# Altium footprint library PCB_PassiveCap.PcbLib: 27 footprints (part 1 of 2)
Each footprint in its own frame and in the unit in brackets; x right, y up, seen from the top. Pads: shape width x height; smd on the part's side, far side on the other; paste and mask are expansions set on the pad; w line width, h text height; cw(c..) or ccw(c..) is an arc to the next point about the centre after c.
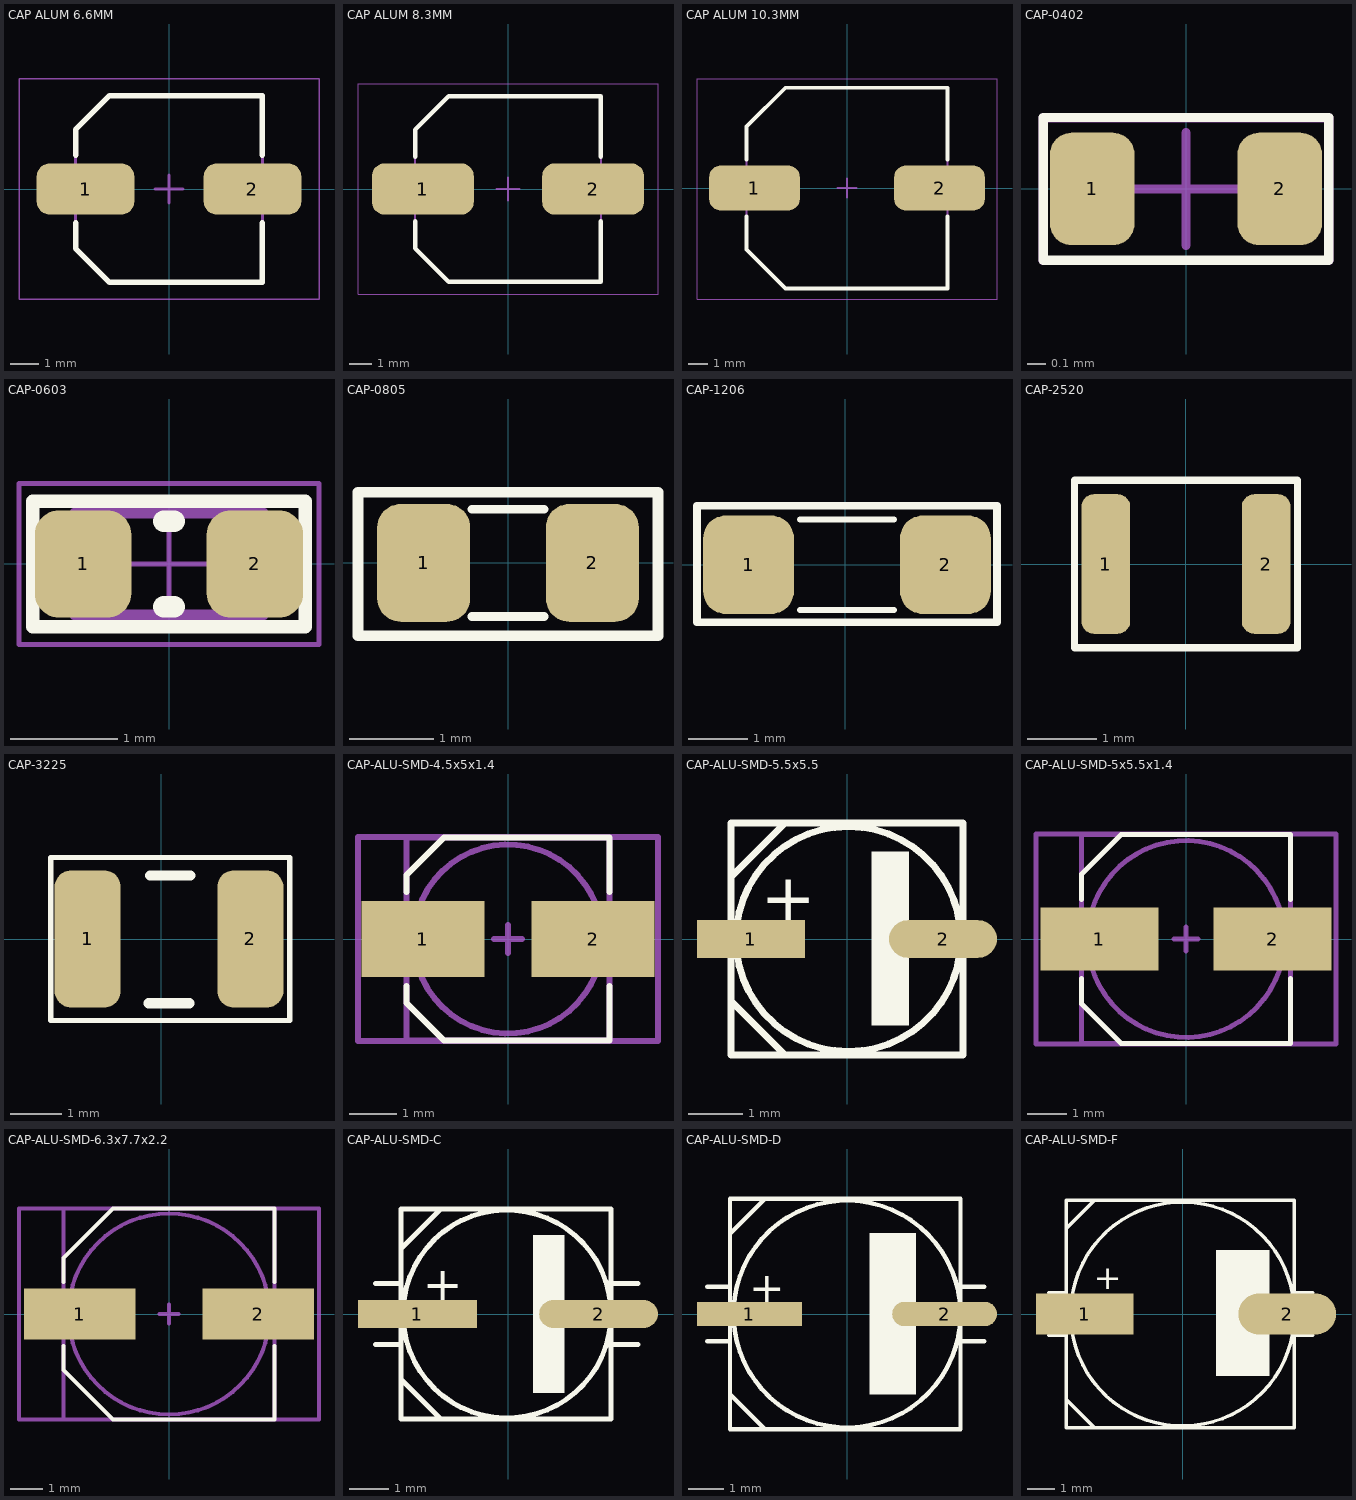
[diagram p0: the footprints below, top view; thin cyan lines are the x and y axes]

## CAP ALUM 6.6MM [mm] "Aluminum Electrolytic Capacitor, Body 6.60x6.60x7.70mm, IPC Low Density"
height 7.7
pads (2):
  rrect50% 3.45x1.8 smd: 1(-2.95,0) 2(2.95,0)
Top Overlay:
  lines w0.2: -3.3,-1.2 -3.3,-2.1 -2.1,-3.3 3.3,-3.3 3.3,-1.2 ; -3.3,1.2 -3.3,2.1 -2.1,3.3 3.3,3.3 3.3,1.2
Mechanical 13:
  lines w0.1: -3.3,-2.1 -3.3,2.1 -2.1,3.3 3.3,3.3 3.3,-3.3 -2.1,-3.3 -3.3,-2.1
B-Component:
  lines w0.05: -5.3,-3.9 5.3,-3.9 5.3,3.9 -5.3,3.9 -5.3,-3.9
  lines w0.1: -0.5,0 0.5,0 ; 0,-0.5 0,0.5
3D body "CAP ALUM 6_6mm.STEP": height 7.7, standoff 0, extent -3.5,-3.3 3.5,3.3

## CAP ALUM 8.3MM [mm] "Aluminum Electrolytic Capacitor, Body 8.30x8.30x10.50mm, IPC Low Density"
height 10.5
pads (2):
  rrect50% 4.55x2.3 smd: 1(-3.8,0) 2(3.8,0)
Top Overlay:
  lines w0.2: -4.15,-1.45 -4.15,-2.65 -2.65,-4.15 4.15,-4.15 4.15,-1.45 ; -4.15,1.45 -4.15,2.65 -2.65,4.15 4.15,4.15 4.15,1.45
Mechanical 13:
  lines w0.1: -4.15,-2.65 -4.15,2.65 -2.65,4.15 4.15,4.15 4.15,-4.15 -2.65,-4.15 -4.15,-2.65
B-Component:
  lines w0.05: -6.7,-4.7 6.7,-4.7 6.7,4.7 -6.7,4.7 -6.7,-4.7
  lines w0.1: -0.5,0 0.5,0 ; 0,-0.5 0,0.5
3D body "CAP ALUM 8_3mm.STEP": height 10.5, standoff 0, extent -4.95,-4.15 4.95,4.15

## CAP ALUM 10.3MM [mm] "Aluminum Electrolytic Capacitor, Body 10.30x10.30x10.50mm, IPC Low Density"
height 10.5
pads (2):
  rrect50% 4.65x2.3 smd: 1(-4.75,0) 2(4.75,0)
Top Overlay:
  lines w0.2: -5.15,-1.45 -5.15,-3.15 -3.15,-5.15 5.15,-5.15 5.15,-1.45 ; -5.15,1.45 -5.15,3.15 -3.15,5.15 5.15,5.15 5.15,1.45
Mechanical 13:
  lines w0.1: -5.15,-3.15 -3.15,-5.15 5.15,-5.15 5.15,5.15 -3.15,5.15 -5.15,3.15 -5.15,-3.15
B-Component:
  lines w0.05: -7.7,-5.7 -7.7,5.6 7.7,5.6 7.7,-5.7 -7.7,-5.7
  lines w0.1: -0.5,0 0.5,0 ; 0,-0.5 0,0.5
3D body "CAP ALUM 10_3mm.STEP": height 10.5, standoff 0, extent -5.8,-5.15 5.8,5.15

## CAP-0402 [mm]
pads (2):
  rrect50% 0.45x0.6 smd: 1(-0.5,0) 2(0.5,0)
Top Overlay:
  lines w0.05: -0.127,-0.381 0,-0.381 0.127,-0.381 ; 0.127,0.381 0,0.381 ; 0,0.381 -0.762,0.381 -0.762,-0.381 0.762,-0.381 0.762,0.381 0,0.381
B-Component:
  lines w0.05: -0.3,0 0.3,0 ; 0,-0.3 0,0.3 ; -0.762,-0.381 -0.762,0.381 0.762,0.381 0.762,-0.381 -0.762,-0.381
3D body "User Library-0402 SMD Capacitor.step": height 0.2, standoff 0, extent -0.5,-0.3 0.5,0.3

## CAP-0603 [mm]
pads (2):
  rrect50% 0.9x1 smd: 1(-0.8,0) 2(0.8,0)
Top Overlay:
  lines w0.127: -1.27,-0.584 1.27,-0.584 1.27,0.584 -1.27,0.584 -1.27,-0.584
  lines w0.2: -0.05,-0.4 0.05,-0.4 ; -0.05,0.4 0.05,0.4
Mechanical 13:
  lines w0.1: -0.875,-0.475 0.875,-0.475 0.875,0.475 -0.875,0.475 -0.875,-0.475
B-Component:
  lines w0.05: -0.475,0 0.475,0 ; 0,-0.475 0,0.475 ; -1.397,-0.75 1.397,-0.75 1.397,0.75 -1.397,0.75 -1.397,-0.75
3D body "User Library-0603 SMD Capacitor.step": height 0.3, standoff 0, extent -0.8,-0.4 0.8,0.4

## CAP-0805 [mm]
pads (2):
  rrect50% 1.1x1.397 smd: 1(-1,0) 2(1,0)
Top Overlay:
  lines w0.102: -0.432,-0.635 0.432,-0.635 ; -0.432,0.635 0.432,0.635
  lines w0.127: -1.778,-0.864 -1.778,0.838 1.778,0.838 1.778,-0.864 -1.778,-0.864
3D body "0805 SMD Capacitor.step": height 0.8, standoff 0.02, extent -1,-0.625 1,0.625

## CAP-1206 [mil]
pads (2):
  rrect50% 60x65 smd: 1(-64,0) 2(66,0)
Top Overlay:
  lines w4: -30,-30 32,-30 ; -30,30 32,30
  lines w5: -98,-38 -98,39 100,39 100,-38 -98,-38
3D body "1206 SMD Capacitor.step": height 40.05, standoff 0.6, extent -62.98,-31.49 63,31.51

## CAP-2520 [mm] "TOKO INDUCTOR DFE252012 SERIES"
pads (2):
  rrect50% 0.7x2 smd mask+0.051: 1(-1.15,0) 2(1.15,0)
Top Overlay:
  lines w0.102: -1.6,-1.2 -1.5,-1.2 1.6,-1.2 1.6,1.2 -1.5,1.2 -1.6,1.2 -1.6,-1.2
3D body: height 1.21, standoff 0, extent 0.85,-1 1.25,1
3D body: height 1.21, standoff 0, extent -1.25,-1 -0.85,1
3D body: height 1.2, standoff 0, extent -1.15,-0.9 1.15,0.9

## CAP-3225 [mm] "Chip Capacitor, Body 3.2x2.5mm, IPC Medium Density"
height 1.35
pads (2):
  rrect50% 1.3x2.7 smd: 1(-1.445,0) 2(1.755,0)
Top Overlay:
  lines w0.1: -2.17,-1.6 2.53,-1.6 2.53,1.6 -2.17,1.6 -2.17,-1.6
  lines w0.2: -0.245,-1.265 0.555,-1.265 ; -0.22,1.25 0.58,1.25
3D body "SMD Capacitor 3225.step": height 1, standoff 0, extent -1.445,-1.25 1.755,1.25

## CAP-ALU-SMD-4.5x5x1.4 [mm]
height 5.5
pads (2):
  rect 2.6x1.6 smd: 1(-1.8,0) 2(1.8,0)
Top Overlay:
  lines w0.127: -2.15,-1 -2.15,-1.35 -1.35,-2.15 2.15,-2.15 2.15,-1 ; -2.15,1 -2.15,1.35 -1.35,2.15 2.15,2.15 2.15,1
Mechanical 13:
  circle w0.127: c0,0 r2
  lines w0.127: -2.15,-2.15 2.15,-2.15 2.15,2.15 -2.15,2.15 -2.15,-2.15
B-Component:
  lines w0.127: -0.3,0 0.3,0 ; 0,-0.3 0,0.3 ; -3.175,-2.159 3.175,-2.159 3.175,2.159 -3.175,2.159 -3.175,-2.159
3D body "4x5.5x1.stp": height 5.45, standoff -0.05, extent -2.5,-2.15 2.5,2.15

## CAP-ALU-SMD-5.5x5.5 [mm]
pads (2):
  rect 2x0.7 smd: 1(-1.778,0)
  oval 2x0.7 smd: 2(1.778,0)
Top Overlay:
  circle w0.127: c0.025,0 r2.083
  rectangle: 0.45,-1.6 1.15,1.625
  lines w0.127: -2.15,-1.15 -1.15,-2.15 ; -2.15,-0.05 -2.15,0.85 ; -2.15,1.15 -1.15,2.15 -0.85,2.15 ; -2.15,-2.15 -2.15,2.15 2.15,2.15 2.15,-2.15 -2.15,-2.15
  text "+" at -1.6,0.325 h0.89
3D body "User Library-ALU-B.STEP": height 5.4, standoff 0, extent -2.3,-2.15 2.3,2.15

## CAP-ALU-SMD-5x5.5x1.4 [mm]
height 5.5
pads (2):
  rect 3x1.6 smd: 1(-2.2,0) 2(2.2,0)
Top Overlay:
  lines w0.127: -2.65,-1 -2.65,-1.65 -1.65,-2.65 2.65,-2.65 2.65,-1 ; -2.65,1 -2.65,1.65 -1.65,2.65 2.65,2.65 2.65,1
Mechanical 13:
  circle w0.127: c0,0 r2.5
  lines w0.127: -2.65,-2.65 2.65,-2.65 2.65,2.65 -2.65,2.65 -2.65,-2.65
B-Component:
  lines w0.127: -0.3,0 0.3,0 ; 0,-0.3 0,0.3 ; -3.81,-2.667 3.81,-2.667 3.81,2.667 -3.81,2.667 -3.81,-2.667
3D body "5x5.5x1.4.stp": height 5.45, standoff -0.05, extent -3,-2.65 3,2.65

## CAP-ALU-SMD-6.3x7.7x2.2 [mm]
height 7.7
pads (2):
  rect 3.5x1.6 smd: 1(-2.8,0) 2(2.8,0)
Top Overlay:
  lines w0.127: -3.3,-1 -3.3,-1.75 -1.75,-3.3 3.3,-3.3 3.3,-1 ; -3.3,1 -3.3,1.75 -1.75,3.3 3.3,3.3 3.3,1
Mechanical 13:
  circle w0.127: c0,0 r3.15
  lines w0.127: -3.3,-3.3 3.3,-3.3 3.3,3.3 -3.3,3.3 -3.3,-3.3
B-Component:
  lines w0.127: -0.3,0 0.3,0 ; 0,-0.3 0,0.3 ; -4.699,-3.302 4.699,-3.302 4.699,3.302 -4.699,3.302 -4.699,-3.302
3D body "6.3x7.7x2.2.stp": height 7.65, standoff -0.05, extent -3.65,-3.3 3.65,3.3

## CAP-ALU-SMD-C [mm]
pads (2):
  rect 3x0.7 smd: 1(-2.286,0)
  oval 3x0.7 smd: 2(2.286,0)
Top Overlay:
  circle w0.127: c-0.025,0 r2.625
  rectangle: 0.625,-2 1.425,2
  lines w0.127: -3.35,-0.775 -2.7,-0.775 ; -3.35,0.775 -2.7,0.775 ; -2.7,-1.65 -1.7,-2.65 ; -2.7,1.65 -1.7,2.65 ; 2.6,-0.775 3.275,-0.775 ; 2.6,0.775 3.275,0.775 ; -2.7,-2.65 2.6,-2.65 2.6,2.65 -2.7,2.65 -2.7,0 -2.7,-2.65
  text "+" at -2.15,0.325 h0.89
3D body "User Library-ALU-C.STEP": height 5.41, standoff 0, extent -2.95,-2.65 2.95,2.65

## CAP-ALU-SMD-D [mm]
pads (2):
  rect 3x0.7 smd: 1(-2.794,0)
  oval 3x0.7 smd: 2(2.794,0)
Top Overlay:
  circle w0.127: c0,0 r3.25
  rectangle: 0.65,-2.3 1.975,2.325
  lines w0.127: -4,-0.775 -3.35,-0.775 ; -4,0.775 -3.35,0.775 ; -3.35,-2.65 -3.35,0 ; -3.35,-2.3 -2.35,-3.3 ; -3.35,2.3 -2.35,3.3 ; 3.25,-0.775 3.925,-0.775 ; 3.25,0.775 3.925,0.775 ; -3.35,-3.3 3.25,-3.3 3.25,0 3.25,3.3 -3.35,3.3 -3.35,0 ; -3.35,-3.3 -3.35,-3.3 ; -3.35,-3.3 -3.35,0
  text "+" at -2.8,0.325 h0.89
3D body "User Library-ALU-D.STEP": height 5.4, standoff 0, extent -3.5,-3.3 3.5,3.3

## CAP-ALU-SMD-F [mil]
pads (2):
  rect 140x59.06 smd: 1(-140,0)
  oval 140x59.06 smd: 2(150,0)
Top Overlay:
  circle w5: c0,0 r160.44
  rectangle: 48.23,-88.58 125,91.54
  lines w5: -191.93,-30.51 -166.34,-30.51 ; -191.93,30.51 -166.34,30.51 ; -166.34,-104.33 -166.34,0 ; -166.34,104.33 -166.34,0 ; -165.35,-124.02 -125.98,-163.39 ; -165.35,124.02 -125.98,163.39 ; 160.43,-30.51 187.01,-30.51 ; 160.44,0 ccw(c0,0) 160.43,0.99 ; 160.43,30.51 187.01,30.51 ; -166.34,-129.92 -166.34,0 ; -166.34,-129.92 -166.34,-129.92 ; -166.34,0 -166.34,-163.39 160.43,-163.39 160.43,-0.98 ; -166.34,0 -166.34,129.92 ; -166.34,0 -166.34,163.39 160.43,163.39 160.43,0.98 ; -166.34,129.92 -166.34,129.92 ; 160.43,-0.98 160.43,-0.98 ; 160.43,0.98 160.43,0.98
  text "+" at -126.97,35.43 h35
3D body "User Library-ALU-F.STEP": height 401.57, standoff 0, extent -194.89,-163.39 194.88,163.38